# Altium footprint library ME030-508-xx.PcbLib: 6 footprints
Each footprint in its own frame and in the unit in brackets; x right, y up, seen from the top. Pads: shape width x height; smd on the part's side, far side on the other; paste and mask are expansions set on the pad; w line width, h text height; cw(c..) or ccw(c..) is an arc to the next point about the centre after c.
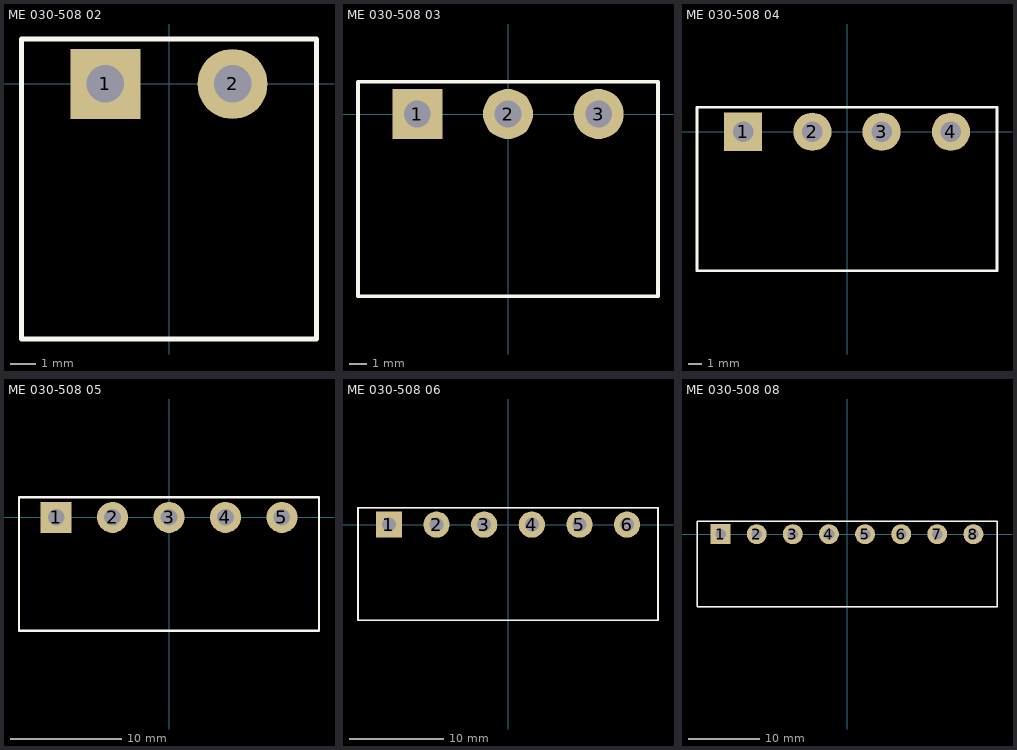
[diagram p0: the footprints below, top view; thin cyan lines are the x and y axes]

## ME 030-508 02 [mm]
pads (2):
  rect 2.8x2.8 hole 1.5: 1(-2.54,0)
  round 2.8 hole 1.5: 2(2.54,0)
Top Overlay:
  lines w0.2: -5.9,-10.2 5.9,-10.2 5.9,1.8 -5.9,1.8 -5.9,-10.2
Border:
  lines w0.1: -5.9,-10.2 5.9,-10.2 5.9,1.8 -5.9,1.8 -5.9,-10.2
3D body "ME 030-508 02.stp": height 8.3, standoff -4.5, extent -5.88,-10.2 5.88,1.8

## ME 030-508 03 [mm]
pads (3):
  rect 2.8x2.8 hole 1.5: 1(-5.08,0)
  round 2.8 hole 1.5: 2(0,0) 3(5.08,0)
Top Overlay:
  lines w0.2: -8.4,-10.2 8.4,-10.2 8.4,1.8 -8.4,1.8 -8.4,-10.2
Border:
  lines w0.1: -8.4,-10.2 8.4,-10.2 8.4,1.8 -8.4,1.8 -8.4,-10.2
3D body "ME 030-508 03.stp": height 8.3, standoff -4.5, extent -8.42,-10.2 8.42,1.8

## ME 030-508 04 [mm]
pads (4):
  rect 2.8x2.8 hole 1.5: 1(-7.62,0)
  round 2.8 hole 1.5: 2(-2.54,0) 3(2.54,0) 4(7.62,0)
Top Overlay:
  lines w0.2: -11,-10.2 11,-10.2 11,1.8 -11,1.8 -11,-10.2
Border:
  lines w0.1: -11,-10.2 11,-10.2 11,1.8 -11,1.8 -11,-10.2
3D body "ME 030-508 04.stp": height 8.3, standoff -4.5, extent -10.96,-10.2 10.96,1.8

## ME 030-508 05 [mm]
pads (5):
  rect 2.8x2.8 hole 1.5: 1(-10.16,0)
  round 2.8 hole 1.5: 2(-5.08,0) 3(0,0) 4(5.08,0) 5(10.16,0)
Top Overlay:
  lines w0.2: -13.5,-10.2 13.5,-10.2 13.5,1.8 -13.5,1.8 -13.5,-10.2
Border:
  lines w0.1: -13.5,-10.2 13.5,-10.2 13.5,1.8 -13.5,1.8 -13.5,-10.2
3D body "ME 030-508 05.stp": height 8.3, standoff -4.5, extent -13.5,-10.2 13.5,1.8

## ME 030-508 06 [mm]
pads (6):
  rect 2.8x2.8 hole 1.5: 1(-12.7,0)
  round 2.8 hole 1.5: 2(-7.62,0) 3(-2.54,0) 4(2.54,0) 5(7.62,0) 6(12.7,0)
Top Overlay:
  lines w0.2: -16,-10.2 16,-10.2 16,1.8 -16,1.8 -16,-10.2
Border:
  lines w0.1: -16,-10.2 16,-10.2 16,1.8 -16,1.8 -16,-10.2
3D body "ME 030-508 06.stp": height 8.3, standoff -4.5, extent -16.04,-10.2 16.04,1.8

## ME 030-508 08 [mm]
pads (8):
  rect 2.8x2.8 hole 1.5: 1(-17.78,0)
  round 2.8 hole 1.5: 2(-12.7,0) 3(-7.62,0) 4(-2.54,0) 5(2.54,0) 6(7.62,0) 7(12.7,0) 8(17.78,0)
Top Overlay:
  lines w0.2: -21.1,-10.2 21.1,-10.2 21.1,1.8 -21.1,1.8 -21.1,-10.2
Border:
  lines w0.1: -21.1,-10.2 21.1,-10.2 21.1,1.8 -21.1,1.8 -21.1,-10.2
3D body "ME 030-508 08.stp": height 8.3, standoff -4.5, extent -21.12,-10.2 21.12,1.8